# Altium footprint library CAPRB250W50L450T300H550.PcbLib: 1 footprints
Each footprint in its own frame and in the unit in brackets; x right, y up, seen from the top. Pads: shape width x height; smd on the part's side, far side on the other; paste and mask are expansions set on the pad; w line width, h text height; cw(c..) or ccw(c..) is an arc to the next point about the centre after c.
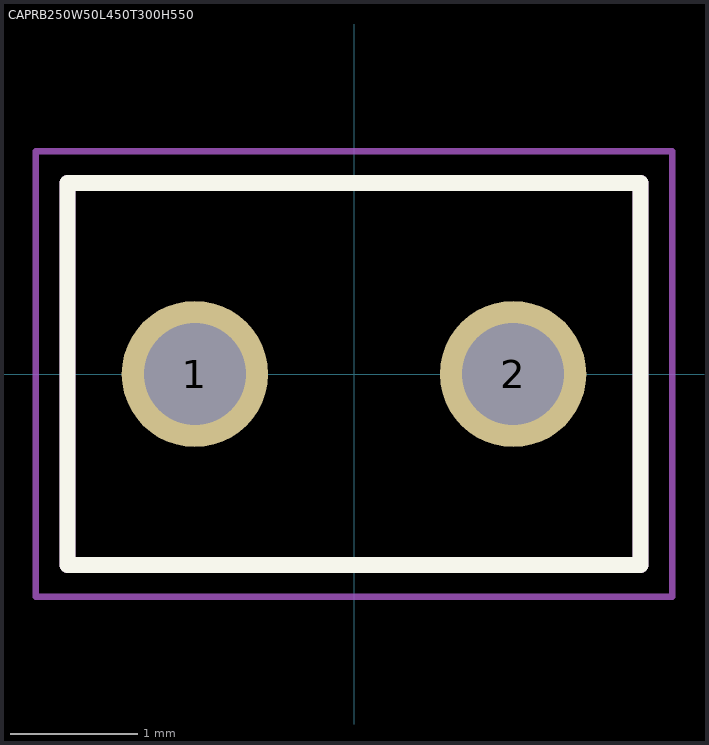
[diagram p0: the footprint, top view; thin cyan lines are the x and y axes]

## CAPRB250W50L450T300H550 [mm]
pads (2):
  round 1.15 hole 0.8: 1(-1.25,0) 2(1.25,0)
Top Overlay:
  lines w0.127: -2.25,-1.5 2.25,-1.5 2.25,1.5 -2.25,1.5 -2.25,-1.5
Assembly Top:
  lines w0.127: -2.25,-1.5 -2.25,1.5 2.25,1.5 2.25,-1.5 -2.25,-1.5
Courtyard Top:
  lines w0.05: -2.5,-1.75 -2.5,1.75 2.5,1.75 2.5,-1.75 -2.5,-1.75
3D body "step_temp.STEP": height 5.5, standoff -7, extent -2.75,-1.5 2.75,1.5